# Altium footprint library TimerSMD_Models.PcbLib: 39 footprints (part 1 of 3)
Each footprint in its own frame and in the unit in brackets; x right, y up, seen from the top. Pads: shape width x height; smd on the part's side, far side on the other; paste and mask are expansions set on the pad; w line width, h text height; cw(c..) or ccw(c..) is an arc to the next point about the centre after c.
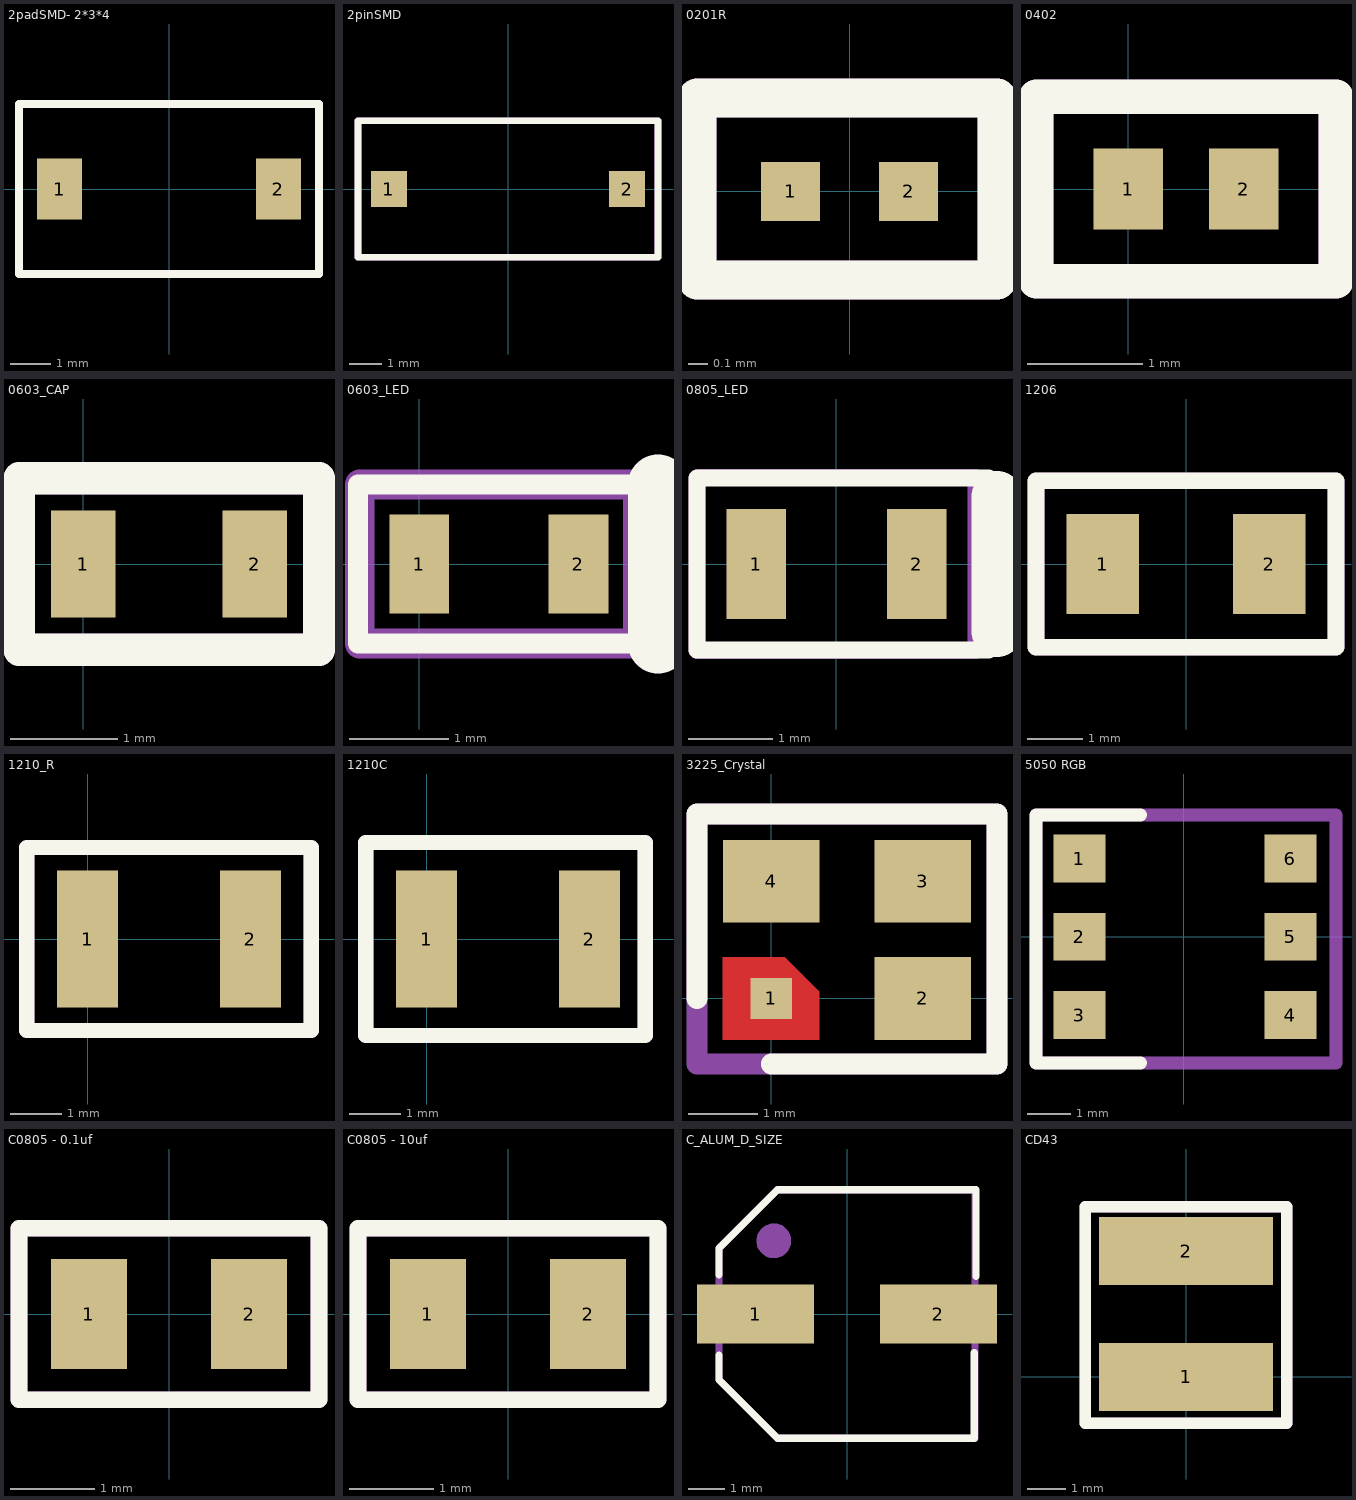
[diagram p0: the footprints below, top view; thin cyan lines are the x and y axes]

## 2padSMD- 2*3*4 [mm]
pads (2):
  rect 1.1x1.5 smd: 1(-2.7,0) 2(2.7,0)
Top Overlay:
  lines w0.2: -3.7,2.05 -3.7,-2.1 3.7,-2.1 3.7,2.1 -3.7,2.1
Mechanical 2:
  lines w0.2: -3.7,-2.1 -3.7,1.1 -3.7,2.1 3.7,2.1 3.7,-2.1 -3.7,-2.1
  text ".Designator" at -3.2,-1.6 h2.5
3D body "3x4x2mm - 2 Pad.stp": height 1.93, standoff 0, extent -2.502,-1.499 2.502,1.499

## 2pinSMD [mm]
pads (2):
  rect 1.1x1.1 smd: 1(-3.65,0) 2(3.65,0)
Top Overlay:
  lines w0.2: -4.6,-2.1 -4.6,1.15 -4.6,2.1 4.6,2.1 4.6,-2.1 -4.6,-2.1
Mechanical 2:
  lines w0.2: -4.6,-2.1 4.6,-2.1 4.6,2.1 -4.6,2.1 -4.6,1.15 -4.6,-2.1
  text ".Designator" at -3.9,-1.6 h3
3D body "User Library-smd buttonm 8mm.step": height 2.51, standoff 0.01, extent -3.95,-1.825 3.95,1.825

## 0201R [mm]
pads (2):
  rect 0.3x0.3 smd: 1(-0.3,0) 2(0.3,0)
Top Overlay:
  lines w0.2: -0.776,-0.45 0.75,-0.45 0.75,0.475 -0.776,0.475 -0.776,-0.45
Mechanical 2:
  lines w0.2: -0.776,-0.45 0.75,-0.45 0.75,0.475 -0.776,0.475 -0.776,-0.45
  text ".Designator" at -2.498,-1.041 h0.7
3D body "RC0201.stp": height 0.23, standoff 0, extent -0.3,-0.15 0.3,0.15

## 0402 [mm]
pads (2):
  rect 0.6x0.7 smd: 1(0,0) 2(1,0)
Top Overlay:
  lines w0.3: -0.8,-0.8 -0.8,0.8 1.8,0.8 1.8,-0.8 -0.8,-0.8
Mechanical 2:
  lines w0.3: -0.8,-0.8 -0.8,0.8 1.8,0.8 1.8,-0.8 -0.8,-0.8
  text ".Designator" at -0.2,-0.267 h0.7
3D body "C0402.stp": height 0.25, standoff -0.25, extent 0,-0.3 1,0.2

## 0603_CAP [mm]
pads (2):
  rect 0.6x1 smd: 1(0,0) 2(1.6,0)
Top Overlay:
  lines w0.3: -0.6,-0.8 -0.6,0.8 2.2,0.8 2.2,-0.8 -0.6,-0.8
Mechanical 2:
  lines w0.3: -0.6,-0.8 -0.6,0.8 2.2,0.8 2.2,-0.8 -0.6,-0.8
  text ".Designator" at -0.1,-0.367 h0.7
3D body "C0603.stp": height 0.81, standoff 0.01, extent 0,-0.4 1.6,0.4

## 0603_LED [mm]
pads (2):
  rect 0.6x1 smd: 1(0,0) 2(1.6,0)
Top Overlay:
  lines w0.2: 2.4,-0.8 -0.617,-0.8 -0.617,0.8 2.4,0.8
  lines w0.6: 2.4,-0.8 2.4,0.8
Mechanical 2:
  lines w0.3: -0.6,-0.8 -0.6,0.8 2.2,0.8 2.2,-0.8 -0.6,-0.8
  text ".Designator" at -0.1,-0.367 h0.7
3D body "SMD_0603LED_RED.STEP": height 0.98, standoff 0.1, extent -0.008,-0.5 1.608,0.5

## 0805_LED [mm]
pads (2):
  rect 0.7x1.3 smd: 1(-0.95,0) 2(0.95,0)
Top Overlay:
  lines w0.2: 1.8,-1.016 -1.651,-1.016 -1.651,1.016 1.8,1.016
  lines w0.6: 1.9,-0.8 1.9,0.8
Mechanical 2:
  lines w0.2: 1.65,1.025 1.65,-1.025 -1.65,-1.025 -1.65,1 -1.625,1.025 1.65,1.025 ; 1.65,1.025 1.65,1.025
  text ".Designator" at -0.75,-0.425 h1
3D body "everlight-17-21-0805LED-red.step": height 1.12, standoff 0.01, extent -0.95,-0.625 1.05,0.625

## 1206 [mm]
pads (2):
  rect 1.3x1.8 smd: 1(-1.5,0) 2(1.5,0)
Top Overlay:
  lines w0.3: -2.7,-1.5 -2.7,0.55 -2.7,1.5 2.7,1.5 2.7,-1.5 -2.7,-1.5
Mechanical 2:
  lines w0.3: -2.7,-1.5 2.7,-1.5 2.7,1.5 -2.7,1.5 -2.7,-1.5
  text ".Designator" at -2.2,-0.8 h1.2
3D body "CAPC-1206-T1.0-BN.stp": height 1, standoff 0, extent -1.675,-0.875 1.675,0.875

## 1210_R [mm]
pads (2):
  rect 1.2x2.7 smd: 1(0,0) 2(3.2,0)
Top Overlay:
  lines w0.3: -1.2,-1.8 4.4,-1.8 4.4,1.8 -1.2,1.8 -1.2,-1.8
Mechanical 2:
  lines w0.3: -1.2,-1.8 -1.2,1.8 4.4,1.8 4.4,-1.8 -1.2,-1.8
  text ".Designator" at 0.1,-0.3 h1.2
3D body "Resistor 1210.step": height 0.51, standoff 0.01, extent -0.25,-1.3 3.45,1.3

## 1210C [mm]
pads (2):
  rect 1.2x2.7 smd: 1(0,0) 2(3.2,0)
Top Overlay:
  lines w0.3: -1.2,-1.9 4.3,-1.9 4.3,1.9 -1.2,1.9 -1.2,-1.9
Mechanical 2:
  lines w0.3: -1.2,-1.9 -1.2,1.9 4.3,1.9 4.3,-1.9 -1.2,-1.9
  text ".Designator" at -0.498,-1.266 h1
3D body "C1210_260.step": height 2.6, standoff 0, extent -0.1,-1.25 3.1,1.25

## 3225_Crystal [mm]
pads (4):
  rect 0.6x0.6 smd paste+0 mask+0: 1(0,0)
  rect 1.4x1.2 smd: 2(2.2,0) 3(2.2,1.7) 4(0,1.7)
Top Layer:
  region: -0.7,0.6 -0.7,-0.6 0.7,-0.6 0.7,0.1 0.2,0.6
Top Overlay:
  lines w0.3: -1.075,0 -1.075,2.675 3.275,2.675 3.275,-0.95 0,-0.95
Mechanical 2:
  lines w0.3: -1.075,-0.95 -1.075,2.675 3.275,2.675 3.275,-0.95 -1.075,-0.95
  text ".Designator" at -0.448,0.042 h1
3D body "3225 SMD Crystal Oscillator.STEP": height 0.71, standoff 0.01, extent -0.5,-0.4 2.7,2.1

## 5050 RGB [mm]
pads (6):
  rect 1.2x1.1 smd: 1(-2.4,1.8) 2(-2.4,0) 3(-2.4,-1.8) 4(2.45,-1.8) 5(2.45,0) 6(2.45,1.8)
Top Overlay:
  lines w0.3: -1,-2.9 -3.4,-2.9 -3.4,2.8 -1,2.8
Mechanical 2:
  lines w0.3: -3.4,-2.9 -3.4,2.8 3.5,2.8 3.5,-2.9 -3.4,-2.9
  text ".Designator" at -2.398,-0.7 h1.5
3D body "User Library-5050 RGB led.STEP": height 1.6, standoff 0, extent -2.8,-2.55 2.74,2.55

## C0805 - 0.1uf [mm]
pads (2):
  rect 0.9x1.3 smd: 1(-0.95,0) 2(0.95,0)
Top Overlay:
  lines w0.2: -1.778,-1.016 -1.778,1.016 1.778,1.016 1.778,-1.016 -1.778,-1.016
Mechanical 2:
  lines w0.2: -1.778,-1.016 1.778,-1.016 1.778,1.016 -1.778,1.016 -1.778,-1.016
  text ".Designator" at -0.762,-0.254 h0.6
3D body "CAPC2012X95N EIA 0805.step": height 0.96, standoff 0.01, extent -1,-0.6 1,0.6

## C0805 - 10uf [mm]
pads (2):
  rect 0.9x1.3 smd: 1(-0.95,0) 2(0.95,0)
Top Overlay:
  lines w0.2: -1.778,-1.016 -1.778,1.016 1.778,1.016 1.778,-1.016 -1.778,-1.016
Mechanical 2:
  lines w0.2: -1.778,-1.016 1.778,-1.016 1.778,1.016 -1.778,1.016 -1.778,-1.016
  text ".Designator" at -0.762,-0.254 h0.6
3D body "CAPC2012X145N EIA 0805.step": height 1.46, standoff 0.01, extent -1,-0.6 1,0.6

## C_ALUM_D_SIZE [mm]
pads (2):
  rect 3.2x1.6 smd: 1(-2.5,0) 2(2.5,0)
Top Overlay:
  lines w0.2: -3.5,-1.125 -3.5,-1.8 -1.9,-3.4 3.475,-3.4 3.475,-1.05 ; -3.5,1.075 -3.5,1.8 -1.9,3.4 3.525,3.4 3.525,1.025
Mechanical 2:
  circle w0.5: c-2,2 r0.224
  lines w0.2: -3.5,-1.8 -1.9,-3.4 3.5,-3.4 3.5,3.4 -1.9,3.4 -3.5,1.8 -3.5,-1.8
  text ".Designator" at -2,-0.4 h1.3
3D body "User Library-capacitor size D.step": height 5.41, standoff -0.01, extent -3.5,-3.3 3.5,3.3

## CD43 [mm]
pads (2):
  rect 4.5x1.75 smd: 1(0,0) 2(0,3.25)
Top Overlay:
  lines w0.3: -2.6,-1.2 -2.6,4.4 2.6,4.4 2.6,-1.2 -2.6,-1.2
Mechanical 2:
  lines w0.3: -2.6,-1.2 -2.6,4.4 2.6,4.4 2.6,-1.2 -2.6,-1.2
  text ".Designator" at -1.198,1.167 h1
3D body "CD43_inductor.STEP": height 3.21, standoff 0.01, extent -2.225,-0.544 2.275,3.844